# Altium integrated library ERJ3EKF1000V.IntLib: 1 symbol
Pins are listed as number, name and electrical type; pins without a type are passive.

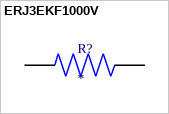
[diagram p0: symbol ERJ3EKF1000V]

## ERJ3EKF1000V
designator R?
100 Ohms 1% 0.1W, 1/10W Chip Resistor 0603 (1608 Metric) Automotive AEC-Q200 Thick Film; MF: Panasonic; MP: ERJ-3EKF1000V; SnapEDA_Link: https://www.snapeda.com/parts/ERJ-3EKF1000V/Panasonic+Electronic+Components/view-part/?ref=snap; Package: 1608-2 Panasonic; Value: *; Check_prices: https://www.snapeda.com/parts/ERJ-3EKF1000V/Panasonic+Electronic+Components/view-part/?ref=eda
footprint RES_ERJ3EKF1000V
pins: 1, 2